# Altium integrated library WS-TATL_rev15a.intlib: 5 symbols
Pins are listed as number, name and electrical type; pins without a type are passive.

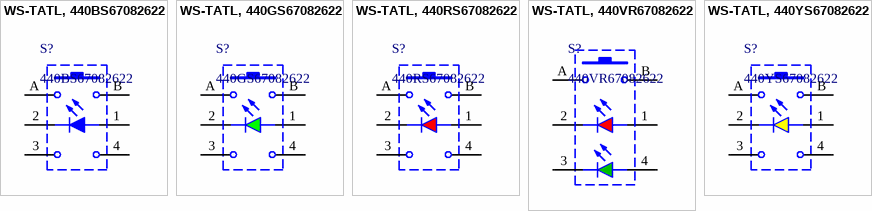
[diagram p0: symbols WS-TATL, 440BS67082622 to WS-TATL, 440YS67082622]

## WS-TATL, 440BS67082622
designator S?, comment 440BS67082622
WS-TATL 12x12 mm THT illuminated; Manufacturer: Wurth Elektronik; partNo: 440BS67082622; ComponentLink1Description: Manufacturer; ComponentLink1URL: http://www.we-online.de; Created by: Baojun Chen; Created Date: Dec.2015; ComponentLink2Description: Datasheet; ComponentLink2URL: http://katalog.we-online.de/em/datasheet/440xx67082622.pdf
footprint 440xx67082622
pins: 1, 2, 3, 4, A, B

## WS-TATL, 440GS67082622
designator S?, comment 440GS67082622
WS-TATL 12x12 mm THT illuminated; Manufacturer: Wurth Elektronik; partNo: 440GS67082622; ComponentLink1Description: Manufacturer; ComponentLink1URL: http://www.we-online.de; Created by: Baojun Chen; Created Date: Dec.2015; ComponentLink2Description: Datasheet; ComponentLink2URL: http://katalog.we-online.de/em/datasheet/440xx67082622.pdf
footprint 440xx67082622
pins: 1, 2, 3, 4, A, B

## WS-TATL, 440RS67082622
designator S?, comment 440RS67082622
WS-TATL 12x12 mm THT illuminated; Manufacturer: Wurth Elektronik; partNo: 440RS67082622; ComponentLink1Description: Manufacturer; ComponentLink1URL: http://www.we-online.de; Created by: Baojun Chen; Created Date: Dec.2015; ComponentLink2Description: Datasheet; ComponentLink2URL: http://katalog.we-online.de/em/datasheet/440xx67082622.pdf
footprint 440xx67082622
pins: 1, 2, 3, 4, A, B

## WS-TATL, 440VR67082622
designator S?, comment 440VR67082622
WS-TATL 12x12 mm THT illuminated; Manufacturer: Wurth Elektronik; partNo: 440VR67082622; ComponentLink1Description: Manufacturer; ComponentLink1URL: http://www.we-online.de; Created by: Baojun Chen; Created Date: Dec.2015; ComponentLink2Description: Datasheet; ComponentLink2URL: http://katalog.we-online.de/em/datasheet/440VR67082622.pdf
footprint 440xx67082622
pins: 1, 2, 3, 4, A, B

## WS-TATL, 440YS67082622
designator S?, comment 440YS67082622
WS-TATL 12x12 mm THT illuminated; Manufacturer: Wurth Elektronik; partNo: 440YS67082622; ComponentLink1Description: Manufacturer; ComponentLink1URL: http://www.we-online.de; Created by: Baojun Chen; Created Date: Dec.2015; ComponentLink2Description: Datasheet; ComponentLink2URL: http://katalog.we-online.de/em/datasheet/440xx67082622.pdf
footprint 440xx67082622
pins: 1, 2, 3, 4, A, B